# Altium integrated library TI Data Converters Digital to Analog Converter.IntLib: 1533 symbols (part 65 of 99)
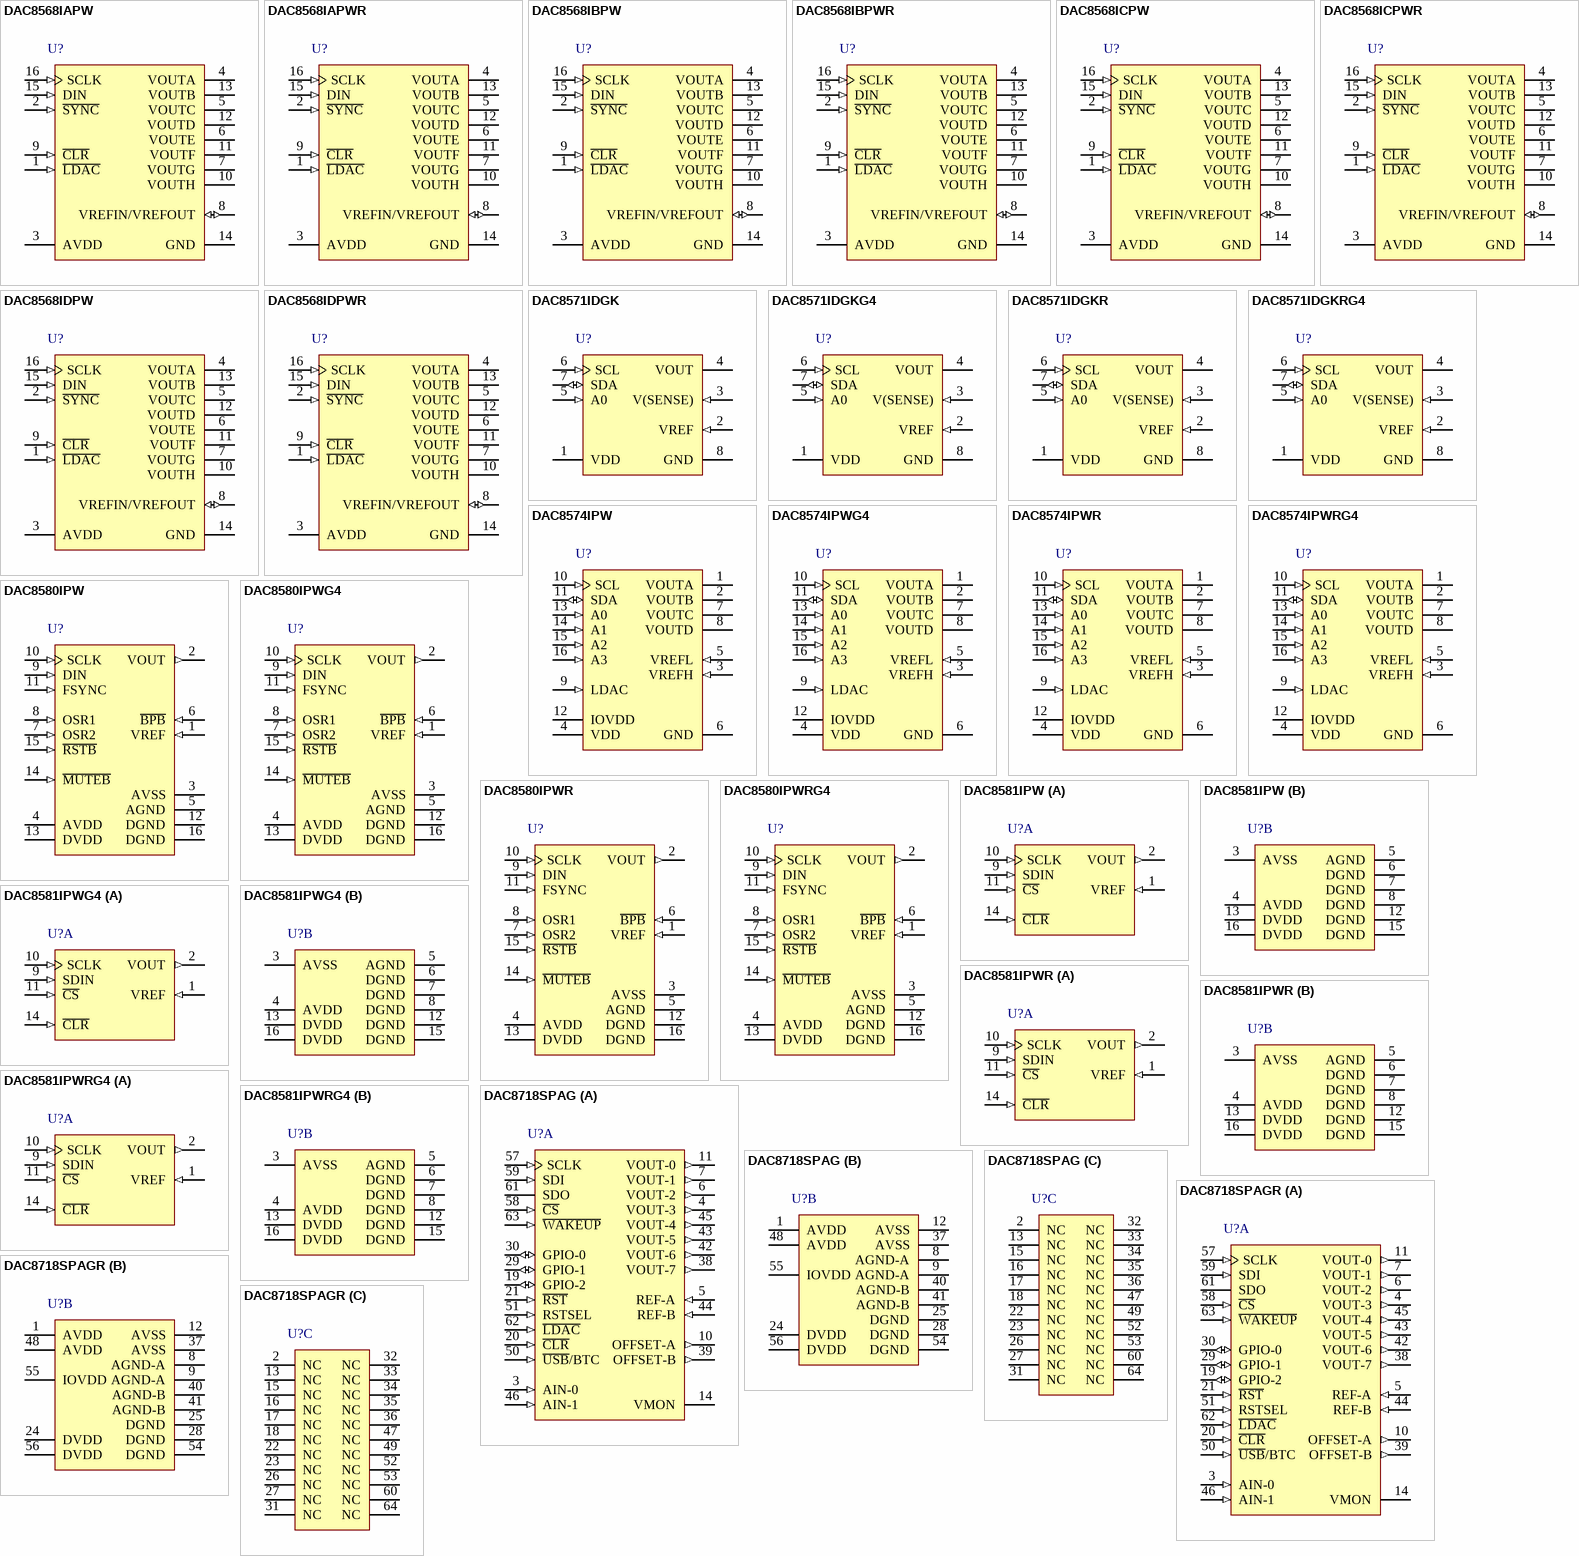
[diagram p137: symbols DAC8568IAPW to DAC8718SPAGR]

## DAC8581IPWR
designator U?
16-Bit, High Speed, Low Noise, Voltage Output Digital to Analog Converter, -40 to 85 degC, 16-pin SOP (PW16), Green (RoHS & no Sb/Br); Manufacturer: Texas Instruments; PartNumber: DAC8581IPWR; DAC Channels: 1; DNL(Max)(+/-LSB): 0.5; Interface: Serial SPI; Power Consumption(Typ)(mW): 175; Resolution(Bits): 16; Settling Time(us): 0.65; SNR(dB): 108; SubFamily: Precision DAC (=<10MSPS); DatasheetVersion: SLAS481C; PackageVersion: 4040064-4/G, 02/2011; PackageReference: PW16; PackageDescription: 16-Pin Plastic Small Outline, Body 5 x 4.4 mm, Pitch 0.65 mm; Supplier 1: Digi-Key; Supplier Part Number 1: DAC8581IPWR-ND; Supplier 2: Newark; Supplier Part Number 2: 53K9305; Supplier 3: Mouser; Supplier Part Number 3: 595-DAC8581IPWR; Eco-Plan: Green (RoHS & no Sb/Br); Mounting Technology: Surface Mount; Code_JEDEC: MO-153; ComponentLink1Description: Manufacturer URL; ComponentLink1URL: http://www.ti.com/; ComponentLink2Description: Datasheet; ComponentLink2URL: http://www.ti.com/general/docs/lit/getliterature.tsp?genericPartNumber=DAC8581&fileType=pdf; ComponentLink3Description: Package Specification; ComponentLink3URL: http://www.ti.com/lit/ml/mpds361/mpds361.pdf
footprint TI-PW16_N (SOP, 16-Leads, Body 5x4.4mm, Pitch 0.65mm, IPC Medium Density)
footprint TI-PW16_L (SOP, 16-Leads, Body 5x4.4mm, Pitch 0.65mm, IPC High Density)
footprint TI-PW16_M (SOP, 16-Leads, Body 5x4.4mm, Pitch 0.65mm, IPC Low Density)
part A pins: 1 VREF (in) "Reference input voltage.", 2 VOUT (out) "DAC output voltage. Output swing is +/-VREF", 9 SDIN (in) "Digital input, serial data. Ignored when C\S\ is high.", 10 SCLK (in) "Digital input, serial bit clock. Ignored when C\S\ is high.", 11 ~{CS} (in) "Digital input. Chip Select (C\S\) signal. Active low. When C\S\ is high, SCLK and SDI are ignored. When C\S\ is low, data can be transferred into the device.", 14 ~{CLR} (in) "Digital input for forcing the output to midscale. Active low. When pin C\L\R\ is low during 16th SCLK following the falling edge of C\S\, the falling edge of 16th SCLK sets DAC Latch to midcode, and the DAC output to 0 V. (See Datasheet)"
part B pins: 3 AVSS (power) "Negative analog supply voltage, tie to -5 V", 4 AVDD (power) "Positive analog supply voltage, tie to +5 V", 5 AGND (power) "The ground reference point of all analog circuitry of the device. Tie to 0 V.", 6 DGND (power) "Tie to DGND to ensure correct operation.", 7 DGND (power) "Tie to DGND to ensure correct operation.", 8 DGND (power) "Tie to DGND to ensure correct operation.", 12 DGND (power) "Ground reference for digital circuitry. Tie to 0 V.", 13 DVDD (power) "Positive digital supply, 1.8 V-5.5 V compatible", 15 DGND (power) "Tie to DGND to ensure correct operation.", 16 DVDD (power) "Tie to DVDD to ensure correct operation."

## DAC8581IPWRG4
designator U?
16-Bit, High Speed, Low Noise, Voltage Output Digital to Analog Converter, -40 to 85 degC, 16-pin SOP (PW16), Green (RoHS & no Sb/Br); Manufacturer: Texas Instruments; PartNumber: DAC8581IPWRG4; DAC Channels: 1; DNL(Max)(+/-LSB): 0.5; Interface: Serial SPI; Power Consumption(Typ)(mW): 175; Resolution(Bits): 16; Settling Time(us): 0.65; SNR(dB): 108; SubFamily: Precision DAC (=<10MSPS); DatasheetVersion: SLAS481C; PackageVersion: 4040064-4/G, 02/2011; PackageReference: PW16; PackageDescription: 16-Pin Plastic Small Outline, Body 5 x 4.4 mm, Pitch 0.65 mm; Supplier 1: Digi-Key; Supplier Part Number 1: DAC8581IPWRG4-ND; Supplier 2: Mouser; Supplier Part Number 2: 595-DAC8581IPWRG4; Eco-Plan: Green (RoHS & no Sb/Br); Mounting Technology: Surface Mount; Code_JEDEC: MO-153; ComponentLink1Description: Manufacturer URL; ComponentLink1URL: http://www.ti.com/; ComponentLink2Description: Datasheet; ComponentLink2URL: http://www.ti.com/general/docs/lit/getliterature.tsp?genericPartNumber=DAC8581&fileType=pdf; ComponentLink3Description: Package Specification; ComponentLink3URL: http://www.ti.com/lit/ml/mpds361/mpds361.pdf
footprint TI-PW16_N (SOP, 16-Leads, Body 5x4.4mm, Pitch 0.65mm, IPC Medium Density)
footprint TI-PW16_L (SOP, 16-Leads, Body 5x4.4mm, Pitch 0.65mm, IPC High Density)
footprint TI-PW16_M (SOP, 16-Leads, Body 5x4.4mm, Pitch 0.65mm, IPC Low Density)
part A pins: 1 VREF (in) "Reference input voltage.", 2 VOUT (out) "DAC output voltage. Output swing is +/-VREF", 9 SDIN (in) "Digital input, serial data. Ignored when C\S\ is high.", 10 SCLK (in) "Digital input, serial bit clock. Ignored when C\S\ is high.", 11 ~{CS} (in) "Digital input. Chip Select (C\S\) signal. Active low. When C\S\ is high, SCLK and SDI are ignored. When C\S\ is low, data can be transferred into the device.", 14 ~{CLR} (in) "Digital input for forcing the output to midscale. Active low. When pin C\L\R\ is low during 16th SCLK following the falling edge of C\S\, the falling edge of 16th SCLK sets DAC Latch to midcode, and the DAC output to 0 V. (See Datasheet)"
part B pins: 3 AVSS (power) "Negative analog supply voltage, tie to -5 V", 4 AVDD (power) "Positive analog supply voltage, tie to +5 V", 5 AGND (power) "The ground reference point of all analog circuitry of the device. Tie to 0 V.", 6 DGND (power) "Tie to DGND to ensure correct operation.", 7 DGND (power) "Tie to DGND to ensure correct operation.", 8 DGND (power) "Tie to DGND to ensure correct operation.", 12 DGND (power) "Ground reference for digital circuitry. Tie to 0 V.", 13 DVDD (power) "Positive digital supply, 1.8 V-5.5 V compatible", 15 DGND (power) "Tie to DGND to ensure correct operation.", 16 DVDD (power) "Tie to DVDD to ensure correct operation."

## DAC8718SPAG
designator U?
Octal, Low power, 16-Bit, +/- 16.5 V Output Serial Input DAC, -40 to 105 degC, 64-pin QFP (PAG64), Green (RoHS & no Sb/Br); Manufacturer: Texas Instruments; PartNumber: DAC8718SPAG; DAC Channels: 8; DNL(Max)(+/-LSB): 1; INL(Max)(+/-LSB): 4; Interface: Serial SPI; Power Consumption(Typ)(mW): 115; Resolution(Bits): 16; Settling Time(us): 15; SubFamily: Precision DAC (=<10MSPS); DatasheetVersion: SBAS467A; PackageVersion: 4040282/C, 11/1996; PackageReference: PAG64; PackageDescription: 64-Pin Plastic Flat Pack, Body 10 x 10 mm, Pitch 0.50 mm; Supplier 1: Digi-Key; Supplier Part Number 1: 296-27423-5-ND; Supplier 2: Newark; Supplier Part Number 2: 79R7942; Supplier 3: Mouser; Supplier Part Number 3: 595-DAC8718SPAG; Eco-Plan: Green (RoHS & no Sb/Br); Mounting Technology: Surface Mount; Code_JEDEC: MS-026; ComponentLink1Description: Manufacturer URL; ComponentLink1URL: http://www.ti.com/; ComponentLink2Description: Datasheet; ComponentLink2URL: http://www.ti.com/general/docs/lit/getliterature.tsp?genericPartNumber=DAC8718&fileType=pdf; ComponentLink3Description: Package Specification; ComponentLink3URL: http://www.ti.com/lit/ml/mtqf006a/mtqf006a.pdf
footprint TI-PAG64_N (QFP, 64-Leads, Body 10x10mm, Pitch 0.5mm, IPC Medium Density)
footprint TI-PAG64_L (QFP, 64-Leads, Body 10x10mm, Pitch 0.5mm, IPC High Density)
footprint TI-PAG64_M (QFP, 64-Leads, Body 10x10mm, Pitch 0.5mm, IPC Low Density)
part A pins: 3 AIN-0 (in) "Auxiliary analog input 0, directly routed to the analog mux", 4 VOUT-3 (out) "DAC-3 output", 5 REF-A (in) "Group A(1) reference input", 6 VOUT-2 (out) "DAC-2 output", 7 VOUT-1 (out) "DAC-1 output", 10 OFFSET-A (out) "OFFSET DAC-A analog output. Must be connected to AGND-A during single power-supply operation (AVSS = 0V). This pin is not intended to drive an external load.", 11 VOUT-0 (out) "DAC-0 output", 14 VMON (hiz) "Analog monitor output. This pin is either in Hi-Z status, connected to one of the eight DAC outputs, reference buffer outputs, offset DAC outputs, or one of the auxiliary analog inputs, depending on the content of the (See Datasheet)", 19 GPIO-2 (io) "General-purpose digital input/output 2. This pin is a bidirectional digital input/output, open-drain and requires an external pull-up resistor. See the GPIO Pins section for details.", 20 ~{CLR} (in) "Clear input, level triggered. When the C\L\R\ pin is logic '0', all VOUT-X pins connect to AGND-x through switches and internal low-impedance. When the C\L\R\ pin is logic '1', all VOUT-X pins connect to the amplifier (See Datasheet)", 21 ~{RST} (in) "Reset input (active low). Logic low on this pin resets the DAC registers and DACs to the values defined by the RSTSEL pin. C\S\ must be logic high when R\S\T\ is active.", 29 GPIO-1 (io) "General-purpose digital input/output 1. This pin is a bidirectional digital input/output, open-drain and requires an external resistor. See the GPIO Pins section for details.", 30 GPIO-0 (io) "General-purpose digital input/output 0. This pin is a bidirectional digital input/output, open-drain and requires an external resistor. See the GPIO Pins section for details.", 38 VOUT-7 (out) "DAC-7 output", 39 OFFSET-B (out) "OFFSET DAC-B analog output. Must be connected to AGND-B during single-supply operation (AVSS = 0V).", 42 VOUT-6 (out) "DAC-6 output", 43 VOUT-5 (out) "DAC-5 output", 44 REF-B (in) "Group B reference input", 45 VOUT-4 (out) "DAC-4 output", 46 AIN-1 (in) "Auxiliary analog input 1, directly routed to the analog mux", 50 ~{USB}/BTC (in) "Data format selection of Input DAC data and Offset DAC data. Data are in straight binary format when connected to DGND or in twos complement format when connected to IOVDD. The command data are always in straight binary (See Datasheet)", 51 RSTSEL (in) "Output reset selection. Selects the output voltage on the VOUT pin after power-on or hardware reset. Refer to the Power-On Reset section for details.", 57 SCLK (in) "SPI bus serial clock input", 58 ~{CS} (in) "SPI bus chip select input (active low). Data are not clocked into SDI unless C\S\ is low. When C\S\ is high, SDO is in a high-impedance state and the SCLK and SDI signals are blocked from the device.", 59 SDI (in) "SPI bus serial data input", 61 SDO (hiz) "SPI bus serial data output. When the DSDO bit = '0', the SDO pin works as an output in normal operation. When the DSDO bit = '1', SDO is always in a Hi-Z state, regardless of the C\S\ pin status. Refer to the Timing Diagrams (See Datasheet)", 62 ~{LDAC} (in) "Load DAC latch control input (active low). When L\D\A\C\ is low, the DAC latch is transparent and the contents of the DAC Data Register are transferred to it. The DAC output changes to the corresponding level simultaneously (See Datasheet)", 63 ~{WAKEUP} (in) "Wake-up input (active low). Restores the SPI from sleep to normal operation. See the Daisy-Chain Operation section for details."
part B pins: 1 AVDD (power) "Positive analog power supply", 8 AGND-A (power) "Group A analog ground and the ground of REF-A. This pin must be tied to AGND-B and DGND.", 9 AGND-A (power) "Group A analog ground and the ground of REF-A. This pin must be tied to AGND-B and DGND.", 12 AVSS (power) "Negative analog power supply", 24 DVDD (power) "Digital power supply", 25 DGND (power) "Digital ground", 28 DGND (power) "Digital ground", 37 AVSS (power) "Negative analog power supply", 40 AGND-B (power) "Group B(1) analog ground and the ground of REF-B. This pin must be tied to AGND-A and DGND.", 41 AGND-B (power) "Group B analog ground and the ground of REF-B. This pin must be tied to AGND-A and DGND.", 48 AVDD (power) "Positive analog power supply", 54 DGND (power) "Digital ground", 55 IOVDD (power) "Interface power", 56 DVDD (power) "Digital power supply"
part C pins: 2 NC "Not connected", 13 NC "Not connected", 15 NC "Not connected", 16 NC "Not connected", 17 NC "Not connected", 18 NC "Not connected", 22 NC "Not connected", 23 NC "Not connected", 26 NC "Not connected", 27 NC "Not connected", 31 NC "Not connected", 32 NC "Not connected", 33 NC "Not connected", 34 NC "Not connected", 35 NC "Not connected", 36 NC "Not connected", 47 NC "Not connected", 49 NC "Not connected", 52 NC "Not connected", 53 NC "Not connected", 60 NC "Not connected", 64 NC "Not connected"

## DAC8718SPAGR
designator U?
Octal, Low power, 16-Bit, +/- 16.5 V Output Serial Input DAC, -40 to 105 degC, 64-pin QFP (PAG64), Green (RoHS & no Sb/Br); Manufacturer: Texas Instruments; PartNumber: DAC8718SPAGR; DAC Channels: 8; DNL(Max)(+/-LSB): 1; INL(Max)(+/-LSB): 4; Interface: Serial SPI; Power Consumption(Typ)(mW): 115; Resolution(Bits): 16; Settling Time(us): 15; SubFamily: Precision DAC (=<10MSPS); DatasheetVersion: SBAS467A; PackageVersion: 4040282/C, 11/1996; PackageReference: PAG64; PackageDescription: 64-Pin Plastic Flat Pack, Body 10 x 10 mm, Pitch 0.50 mm; Supplier 1: Digi-Key; Supplier Part Number 1: DAC8718SPAGR-ND; Supplier 2: Newark; Supplier Part Number 2: 79R7943; Supplier 3: Mouser; Supplier Part Number 3: 595-DAC8718SPAGR; Eco-Plan: Green (RoHS & no Sb/Br); Mounting Technology: Surface Mount; Code_JEDEC: MS-026; ComponentLink1Description: Manufacturer URL; ComponentLink1URL: http://www.ti.com/; ComponentLink2Description: Datasheet; ComponentLink2URL: http://www.ti.com/general/docs/lit/getliterature.tsp?genericPartNumber=DAC8718&fileType=pdf; ComponentLink3Description: Package Specification; ComponentLink3URL: http://www.ti.com/lit/ml/mtqf006a/mtqf006a.pdf
footprint TI-PAG64_N (QFP, 64-Leads, Body 10x10mm, Pitch 0.5mm, IPC Medium Density)
footprint TI-PAG64_L (QFP, 64-Leads, Body 10x10mm, Pitch 0.5mm, IPC High Density)
footprint TI-PAG64_M (QFP, 64-Leads, Body 10x10mm, Pitch 0.5mm, IPC Low Density)
part A pins: 3 AIN-0 (in) "Auxiliary analog input 0, directly routed to the analog mux", 4 VOUT-3 (out) "DAC-3 output", 5 REF-A (in) "Group A(1) reference input", 6 VOUT-2 (out) "DAC-2 output", 7 VOUT-1 (out) "DAC-1 output", 10 OFFSET-A (out) "OFFSET DAC-A analog output. Must be connected to AGND-A during single power-supply operation (AVSS = 0V). This pin is not intended to drive an external load.", 11 VOUT-0 (out) "DAC-0 output", 14 VMON (hiz) "Analog monitor output. This pin is either in Hi-Z status, connected to one of the eight DAC outputs, reference buffer outputs, offset DAC outputs, or one of the auxiliary analog inputs, depending on the content of the (See Datasheet)", 19 GPIO-2 (io) "General-purpose digital input/output 2. This pin is a bidirectional digital input/output, open-drain and requires an external pull-up resistor. See the GPIO Pins section for details.", 20 ~{CLR} (in) "Clear input, level triggered. When the C\L\R\ pin is logic '0', all VOUT-X pins connect to AGND-x through switches and internal low-impedance. When the C\L\R\ pin is logic '1', all VOUT-X pins connect to the amplifier (See Datasheet)", 21 ~{RST} (in) "Reset input (active low). Logic low on this pin resets the DAC registers and DACs to the values defined by the RSTSEL pin. C\S\ must be logic high when R\S\T\ is active.", 29 GPIO-1 (io) "General-purpose digital input/output 1. This pin is a bidirectional digital input/output, open-drain and requires an external resistor. See the GPIO Pins section for details.", 30 GPIO-0 (io) "General-purpose digital input/output 0. This pin is a bidirectional digital input/output, open-drain and requires an external resistor. See the GPIO Pins section for details.", 38 VOUT-7 (out) "DAC-7 output", 39 OFFSET-B (out) "OFFSET DAC-B analog output. Must be connected to AGND-B during single-supply operation (AVSS = 0V).", 42 VOUT-6 (out) "DAC-6 output", 43 VOUT-5 (out) "DAC-5 output", 44 REF-B (in) "Group B reference input", 45 VOUT-4 (out) "DAC-4 output", 46 AIN-1 (in) "Auxiliary analog input 1, directly routed to the analog mux", 50 ~{USB}/BTC (in) "Data format selection of Input DAC data and Offset DAC data. Data are in straight binary format when connected to DGND or in twos complement format when connected to IOVDD. The command data are always in straight binary (See Datasheet)", 51 RSTSEL (in) "Output reset selection. Selects the output voltage on the VOUT pin after power-on or hardware reset. Refer to the Power-On Reset section for details.", 57 SCLK (in) "SPI bus serial clock input", 58 ~{CS} (in) "SPI bus chip select input (active low). Data are not clocked into SDI unless C\S\ is low. When C\S\ is high, SDO is in a high-impedance state and the SCLK and SDI signals are blocked from the device.", 59 SDI (in) "SPI bus serial data input", 61 SDO (hiz) "SPI bus serial data output. When the DSDO bit = '0', the SDO pin works as an output in normal operation. When the DSDO bit = '1', SDO is always in a Hi-Z state, regardless of the C\S\ pin status. Refer to the Timing Diagrams (See Datasheet)", 62 ~{LDAC} (in) "Load DAC latch control input (active low). When L\D\A\C\ is low, the DAC latch is transparent and the contents of the DAC Data Register are transferred to it. The DAC output changes to the corresponding level simultaneously (See Datasheet)", 63 ~{WAKEUP} (in) "Wake-up input (active low). Restores the SPI from sleep to normal operation. See the Daisy-Chain Operation section for details."
part B pins: 1 AVDD (power) "Positive analog power supply", 8 AGND-A (power) "Group A analog ground and the ground of REF-A. This pin must be tied to AGND-B and DGND.", 9 AGND-A (power) "Group A analog ground and the ground of REF-A. This pin must be tied to AGND-B and DGND.", 12 AVSS (power) "Negative analog power supply", 24 DVDD (power) "Digital power supply", 25 DGND (power) "Digital ground", 28 DGND (power) "Digital ground", 37 AVSS (power) "Negative analog power supply", 40 AGND-B (power) "Group B(1) analog ground and the ground of REF-B. This pin must be tied to AGND-A and DGND.", 41 AGND-B (power) "Group B analog ground and the ground of REF-B. This pin must be tied to AGND-A and DGND.", 48 AVDD (power) "Positive analog power supply", 54 DGND (power) "Digital ground", 55 IOVDD (power) "Interface power", 56 DVDD (power) "Digital power supply"
part C pins: 2 NC "Not connected", 13 NC "Not connected", 15 NC "Not connected", 16 NC "Not connected", 17 NC "Not connected", 18 NC "Not connected", 22 NC "Not connected", 23 NC "Not connected", 26 NC "Not connected", 27 NC "Not connected", 31 NC "Not connected", 32 NC "Not connected", 33 NC "Not connected", 34 NC "Not connected", 35 NC "Not connected", 36 NC "Not connected", 47 NC "Not connected", 49 NC "Not connected", 52 NC "Not connected", 53 NC "Not connected", 60 NC "Not connected", 64 NC "Not connected"

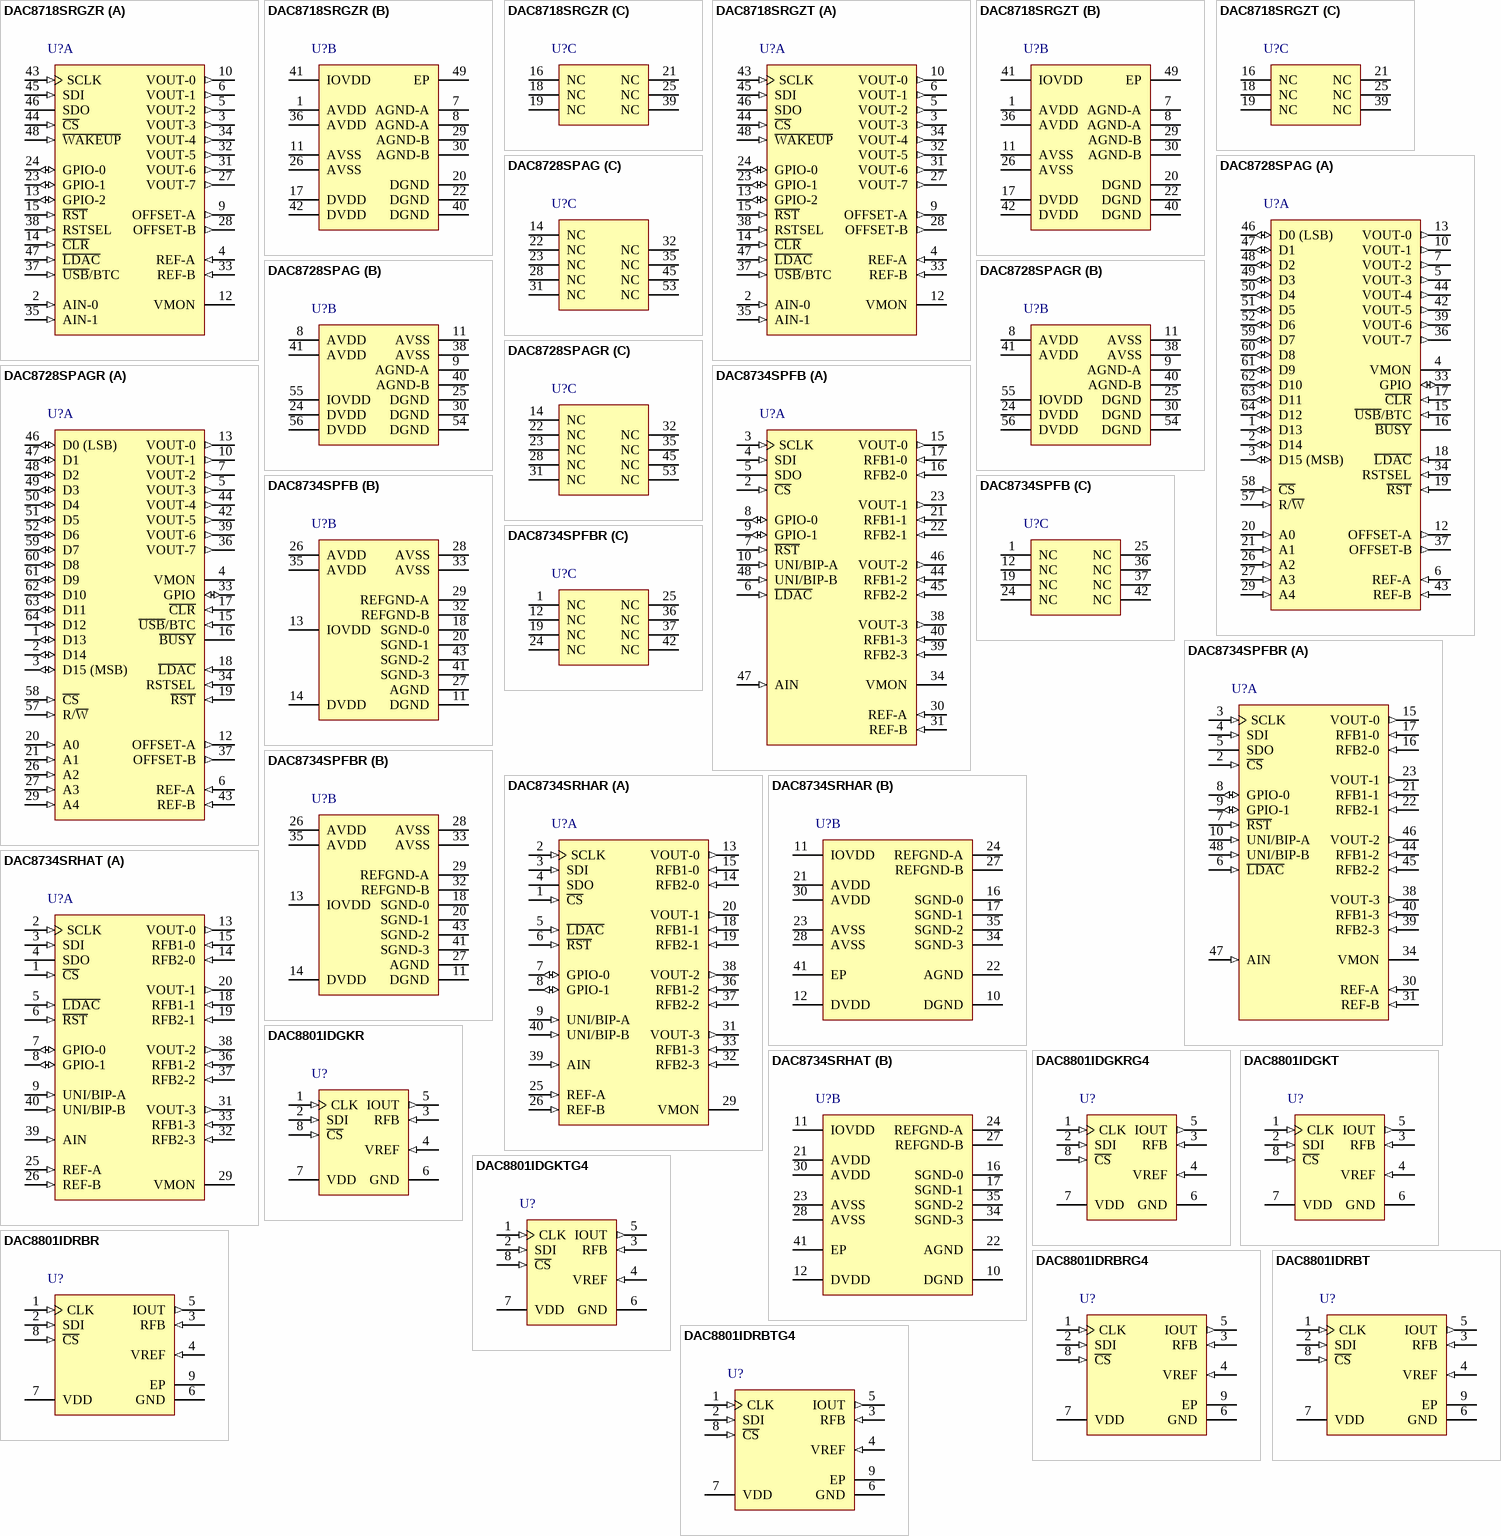
[diagram p50: symbols DAC8718SRGZR to DAC8801IDRBTG4]

## DAC8718SRGZR
designator U?
Octal, Low power, 16-Bit, +/- 16.5 V Output Serial Input DAC, -40 to 105 degC, 48-pin QFN (RGZ48), Green (RoHS & no Sb/Br); Manufacturer: Texas Instruments; PartNumber: DAC8718SRGZR; DAC Channels: 8; DNL(Max)(+/-LSB): 1; INL(Max)(+/-LSB): 4; Interface: Serial SPI; Power Consumption(Typ)(mW): 115; Resolution(Bits): 16; Settling Time(us): 15; SubFamily: Precision DAC (=<10MSPS); DatasheetVersion: SBAS467A; PackageVersion: 4204101/F, 06/2011; PackageReference: RGZ48-5600X5600TP; PackageDescription: 48-Lead, Plastic Flat Pack, Body Size 7 x 7 mm, Pitch 0.5 mm; Supplier 1: Digi-Key; Supplier Part Number 1: DAC8718SRGZR-ND; Supplier 2: Mouser; Supplier Part Number 2: 595-DAC8718SRGZR; Eco-Plan: Green (RoHS & no Sb/Br); Mounting Technology: Surface Mount; Code_JEDEC: MO-220; ComponentLink1Description: Manufacturer URL; ComponentLink1URL: http://www.ti.com/; ComponentLink2Description: Datasheet; ComponentLink2URL: http://www.ti.com/general/docs/lit/getliterature.tsp?genericPartNumber=DAC8718&fileType=pdf; ComponentLink3Description: Package Specification; ComponentLink3URL: http://www.ti.com/lit/ml/mpqf123e/mpqf123e.pdf
footprint TI-RGZ48-5600X5600TP_V (QFN, 48-Leads, Body 7x7mm, Pitch 0.5mm, Thermal Pad 5.6x5.6mm)
part A pins: 2 AIN-0 (in) "Auxiliary analog input 0, directly routed to the analog mux", 3 VOUT-3 (out) "DAC-3 output", 4 REF-A (in) "Group A(1) reference input", 5 VOUT-2 (out) "DAC-2 output", 6 VOUT-1 (out) "DAC-1 output", 9 OFFSET-A (out) "OFFSET DAC-A analog output. Must be connected to AGND-A during single power-supply operation (AVSS = 0V). This pin is not intended to drive an external load.", 10 VOUT-0 (out) "DAC-0 output", 12 VMON (hiz) "Analog monitor output. This pin is either in Hi-Z status, connected to one of the eight DAC outputs, reference buffer outputs, offset DAC outputs, or one of the auxiliary analog inputs, depending on the content of the (See Datasheet)", 13 GPIO-2 (io) "General-purpose digital input/output 2. This pin is a bidirectional digital input/output, open-drain and requires an external pull-up resistor. See the GPIO Pins section for details.", 14 ~{CLR} (in) "Clear input, level triggered. When the C\L\R\ pin is logic '0', all VOUT-X pins connect to AGND-x through switches and internal low-impedance. When the C\L\R\ pin is logic '1', all VOUT-X pins connect to the amplifier (See Datasheet)", 15 ~{RST} (in) "Reset input (active low). Logic low on this pin resets the DAC registers and DACs to the values defined by the RSTSEL pin. C\S\ must be logic high when R\S\T\ is active.", 23 GPIO-1 (io) "General-purpose digital input/output 1. This pin is a bidirectional digital input/output, open-drain and requires an external resistor. See the GPIO Pins section for details.", 24 GPIO-0 (io) "General-purpose digital input/output 0. This pin is a bidirectional digital input/output, open-drain and requires an external resistor. See the GPIO Pins section for details.", 27 VOUT-7 (out) "DAC-7 output", 28 OFFSET-B (out) "OFFSET DAC-B analog output. Must be connected to AGND-B during single-supply operation (AVSS = 0V).", 31 VOUT-6 (out) "DAC-6 output", 32 VOUT-5 (out) "DAC-5 output", 33 REF-B (in) "Group B reference input", 34 VOUT-4 (out) "DAC-4 output", 35 AIN-1 (in) "Auxiliary analog input 1, directly routed to the analog mux", 37 ~{USB}/BTC (in) "Data format selection of Input DAC data and Offset DAC data. Data are in straight binary format when connected to DGND or in twos complement format when connected to IOVDD. The command data are always in straight binary (See Datasheet)", 38 RSTSEL (in) "Output reset selection. Selects the output voltage on the VOUT pin after power-on or hardware reset. Refer to the Power-On Reset section for details.", 43 SCLK (in) "SPI bus serial clock input", 44 ~{CS} (in) "SPI bus chip select input (active low). Data are not clocked into SDI unless C\S\ is low. When C\S\ is high, SDO is in a high-impedance state and the SCLK and SDI signals are blocked from the device.", 45 SDI (in) "SPI bus serial data input", 46 SDO (hiz) "SPI bus serial data output. When the DSDO bit = '0', the SDO pin works as an output in normal operation. When the DSDO bit = '1', SDO is always in a Hi-Z state, regardless of the CS pin status. Refer to the Timing Diagrams (See Datasheet)", 47 ~{LDAC} (in) "Load DAC latch control input (active low). When L\D\A\C\ is low, the DAC latch is transparent and the contents of the DAC Data Register are transferred to it. The DAC output changes to the corresponding level simultaneously (See Datasheet)", 48 ~{WAKEUP} (in) "Wake-up input (active low). Restores the SPI from sleep to normal operation. See the Daisy-Chain Operation section for details."
part B pins: 1 AVDD (power) "Positive analog power supply", 7 AGND-A (power) "Group A analog ground and the ground of REF-A. This pin must be tied to AGND-B and DGND.", 8 AGND-A (power) "Group A analog ground and the ground of REF-A. This pin must be tied to AGND-B and DGND.", 11 AVSS (power) "Negative analog power supply", 17 DVDD (power) "Digital power supply", 20 DGND (power) "Digital ground", 22 DGND (power) "Digital ground", 26 AVSS (power) "Negative analog power supply", 29 AGND-B (power) "Group B(1) analog ground and the ground of REF-B. This pin must be tied to AGND-A and DGND.", 30 AGND-B (power) "Group B analog ground and the ground of REF-B. This pin must be tied to AGND-A and DGND.", 36 AVDD (power) "Positive analog power supply", 40 DGND (power) "Digital ground", 41 IOVDD (power) "Interface power", 42 DVDD (power) "Digital power supply", 49 EP "The thermal pad is internally connected to the substrate. This pad can be connected to AVSS or left floating. Keep the thermal pad separate from the digital ground, if possible."
part C pins: 16 NC "Not connected", 18 NC "Not connected", 19 NC "Not connected", 21 NC "Not connected", 25 NC "Not connected", 39 NC "Not connected"

## DAC8718SRGZT
designator U?
Octal, Low power, 16-Bit, +/- 16.5 V Output Serial Input DAC, -40 to 105 degC, 48-pin QFN (RGZ48), Green (RoHS & no Sb/Br); Manufacturer: Texas Instruments; PartNumber: DAC8718SRGZT; DAC Channels: 8; DNL(Max)(+/-LSB): 1; INL(Max)(+/-LSB): 4; Interface: Serial SPI; Power Consumption(Typ)(mW): 115; Resolution(Bits): 16; Settling Time(us): 15; SubFamily: Precision DAC (=<10MSPS); DatasheetVersion: SBAS467A; PackageVersion: 4204101/F, 06/2011; PackageReference: RGZ48-5600X5600TP; PackageDescription: 48-Lead, Plastic Flat Pack, Body Size 7 x 7 mm, Pitch 0.5 mm; Supplier 1: Digi-Key; Supplier Part Number 1: 296-25560-2-ND; Supplier 2: Digi-Key; Supplier Part Number 2: 296-25560-1-ND; Supplier 3: Digi-Key; Supplier Part Number 3: 296-25560-6-ND; Supplier 4: Farnell; Supplier Part Number 4: 1815725; Supplier 5: Newark; Supplier Part Number 5: 60R2411; Supplier 6: Mouser; Supplier Part Number 6: 595-DAC8718SRGZT; Eco-Plan: Green (RoHS & no Sb/Br); Mounting Technology: Surface Mount; Code_JEDEC: MO-220; ComponentLink1Description: Manufacturer URL; ComponentLink1URL: http://www.ti.com/; ComponentLink2Description: Datasheet; ComponentLink2URL: http://www.ti.com/general/docs/lit/getliterature.tsp?genericPartNumber=DAC8718&fileType=pdf; ComponentLink3Description: Package Specification; ComponentLink3URL: http://www.ti.com/lit/ml/mpqf123e/mpqf123e.pdf
footprint TI-RGZ48-5600X5600TP_V (QFN, 48-Leads, Body 7x7mm, Pitch 0.5mm, Thermal Pad 5.6x5.6mm)
part A pins: 2 AIN-0 (in) "Auxiliary analog input 0, directly routed to the analog mux", 3 VOUT-3 (out) "DAC-3 output", 4 REF-A (in) "Group A(1) reference input", 5 VOUT-2 (out) "DAC-2 output", 6 VOUT-1 (out) "DAC-1 output", 9 OFFSET-A (out) "OFFSET DAC-A analog output. Must be connected to AGND-A during single power-supply operation (AVSS = 0V). This pin is not intended to drive an external load.", 10 VOUT-0 (out) "DAC-0 output", 12 VMON (hiz) "Analog monitor output. This pin is either in Hi-Z status, connected to one of the eight DAC outputs, reference buffer outputs, offset DAC outputs, or one of the auxiliary analog inputs, depending on the content of the (See Datasheet)", 13 GPIO-2 (io) "General-purpose digital input/output 2. This pin is a bidirectional digital input/output, open-drain and requires an external pull-up resistor. See the GPIO Pins section for details.", 14 ~{CLR} (in) "Clear input, level triggered. When the C\L\R\ pin is logic '0', all VOUT-X pins connect to AGND-x through switches and internal low-impedance. When the C\L\R\ pin is logic '1', all VOUT-X pins connect to the amplifier (See Datasheet)", 15 ~{RST} (in) "Reset input (active low). Logic low on this pin resets the DAC registers and DACs to the values defined by the RSTSEL pin. C\S\ must be logic high when R\S\T\ is active.", 23 GPIO-1 (io) "General-purpose digital input/output 1. This pin is a bidirectional digital input/output, open-drain and requires an external resistor. See the GPIO Pins section for details.", 24 GPIO-0 (io) "General-purpose digital input/output 0. This pin is a bidirectional digital input/output, open-drain and requires an external resistor. See the GPIO Pins section for details.", 27 VOUT-7 (out) "DAC-7 output", 28 OFFSET-B (out) "OFFSET DAC-B analog output. Must be connected to AGND-B during single-supply operation (AVSS = 0V).", 31 VOUT-6 (out) "DAC-6 output", 32 VOUT-5 (out) "DAC-5 output", 33 REF-B (in) "Group B reference input", 34 VOUT-4 (out) "DAC-4 output", 35 AIN-1 (in) "Auxiliary analog input 1, directly routed to the analog mux", 37 ~{USB}/BTC (in) "Data format selection of Input DAC data and Offset DAC data. Data are in straight binary format when connected to DGND or in twos complement format when connected to IOVDD. The command data are always in straight binary (See Datasheet)", 38 RSTSEL (in) "Output reset selection. Selects the output voltage on the VOUT pin after power-on or hardware reset. Refer to the Power-On Reset section for details.", 43 SCLK (in) "SPI bus serial clock input", 44 ~{CS} (in) "SPI bus chip select input (active low). Data are not clocked into SDI unless C\S\ is low. When C\S\ is high, SDO is in a high-impedance state and the SCLK and SDI signals are blocked from the device.", 45 SDI (in) "SPI bus serial data input", 46 SDO (hiz) "SPI bus serial data output. When the DSDO bit = '0', the SDO pin works as an output in normal operation. When the DSDO bit = '1', SDO is always in a Hi-Z state, regardless of the CS pin status. Refer to the Timing Diagrams (See Datasheet)", 47 ~{LDAC} (in) "Load DAC latch control input (active low). When L\D\A\C\ is low, the DAC latch is transparent and the contents of the DAC Data Register are transferred to it. The DAC output changes to the corresponding level simultaneously (See Datasheet)", 48 ~{WAKEUP} (in) "Wake-up input (active low). Restores the SPI from sleep to normal operation. See the Daisy-Chain Operation section for details."
part B pins: 1 AVDD (power) "Positive analog power supply", 7 AGND-A (power) "Group A analog ground and the ground of REF-A. This pin must be tied to AGND-B and DGND.", 8 AGND-A (power) "Group A analog ground and the ground of REF-A. This pin must be tied to AGND-B and DGND.", 11 AVSS (power) "Negative analog power supply", 17 DVDD (power) "Digital power supply", 20 DGND (power) "Digital ground", 22 DGND (power) "Digital ground", 26 AVSS (power) "Negative analog power supply", 29 AGND-B (power) "Group B(1) analog ground and the ground of REF-B. This pin must be tied to AGND-A and DGND.", 30 AGND-B (power) "Group B analog ground and the ground of REF-B. This pin must be tied to AGND-A and DGND.", 36 AVDD (power) "Positive analog power supply", 40 DGND (power) "Digital ground", 41 IOVDD (power) "Interface power", 42 DVDD (power) "Digital power supply", 49 EP "The thermal pad is internally connected to the substrate. This pad can be connected to AVSS or left floating. Keep the thermal pad separate from the digital ground, if possible."
part C pins: 16 NC "Not connected", 18 NC "Not connected", 19 NC "Not connected", 21 NC "Not connected", 25 NC "Not connected", 39 NC "Not connected"

## DAC8728SPAG
designator U?
Octal, Low Power, 16-Bit, +/- 16.5 V Output Parallel Input DAC, -40 to 105 degC, 64-pin QFP (PAG64), Green (RoHS & no Sb/Br); Manufacturer: Texas Instruments; PartNumber: DAC8728SPAG; DAC Channels: 8; DNL(Max)(+/-LSB): 1; INL(Max)(+/-LSB): 4; Power Consumption(Typ)(mW): 107; Resolution(Bits): 16; Settling Time(us): 15; SubFamily: Precision DAC (=<10MSPS); DatasheetVersion: SBAS466A; PackageVersion: 4040282/C, 11/1996; PackageReference: PAG64; PackageDescription: 64-Pin Plastic Flat Pack, Body 10 x 10 mm, Pitch 0.50 mm; Supplier 1: Digi-Key; Supplier Part Number 1: 296-25472-ND; Supplier 2: Farnell; Supplier Part Number 2: 1784765; Supplier 3: Newark; Supplier Part Number 3: 53R2227; Supplier 4: Mouser; Supplier Part Number 4: 595-DAC8728SPAG; Eco-Plan: Green (RoHS & no Sb/Br); Interface: Parallel; Mounting Technology: Surface Mount; Code_JEDEC: MS-026; ComponentLink1Description: Manufacturer URL; ComponentLink1URL: http://www.ti.com/; ComponentLink2Description: Datasheet; ComponentLink2URL: http://www.ti.com/general/docs/lit/getliterature.tsp?genericPartNumber=DAC8728&fileType=pdf; ComponentLink3Description: Package Specification; ComponentLink3URL: http://www.ti.com/lit/ml/mtqf006a/mtqf006a.pdf
footprint TI-PAG64_N (QFP, 64-Leads, Body 10x10mm, Pitch 0.5mm, IPC Medium Density)
footprint TI-PAG64_L (QFP, 64-Leads, Body 10x10mm, Pitch 0.5mm, IPC High Density)
footprint TI-PAG64_M (QFP, 64-Leads, Body 10x10mm, Pitch 0.5mm, IPC Low Density)
part A pins: 1 D13 (io) "Data bit 13", 2 D14 (io) "Data bit 14", 3 D15 (MSB) (io) "Data bit 15", 4 VMON (hiz) "Analog monitor output. This pin is either in Hi-Z status, or connected to one of the DAC outputs, reference buffer outputs, or offset DAC outputs, depending on the content of the Monitor Register.", 5 VOUT-3 (out) "DAC-3 output", 6 REF-A (in) "Group A(1) reference input", 7 VOUT-2 (out) "DAC-2 output", 10 VOUT-1 (out) "DAC-1 output", 12 OFFSET-A (out) "OFFSET DAC-A analog output. Must be connected to AGND-A during single power-supply operation (AVSS = 0V). This pin is not intended to drive an external load.", 13 VOUT-0 (out) "DAC-0 output", 15 ~{USB}/BTC (in) "Input data format selection. Input data are in straight binary format when connected to DGND or in twos complement format when connected to IOVDD. Command data are always in straight binary format.", 16 ~{BUSY} (oc) "This pin is an open drain and requires an external pullup resistor. B\U\S\Y\ goes low when the correction engine is running; see the Busy Pin section for details.", 17 ~{CLR} (in) "Level trigger. When the C\L\R\ pin is logic '0', all VOUT-X pins connect to AGND-x through switches and an internal 15kohm resistor. When the C\L\R\ pin is logic '1' and L\D\A\C\ is logic '0', all VOUT-X pins connect to the (See Datasheet)", 18 ~{LDAC} (in) "Load DAC latch control input (active low). When L\D\A\C\ is low, the DAC latch is transparent and the contents of the DAC Data Register are transferred to it. The DAC output changes to the corresponding level simultaneously (See Datasheet)", 19 ~{RST} (in) "Reset input (active low). Logic low on this pin resets the DAC registers and DACs to the values defined by the RSTSEL pin. C\S\ must be at logic high when R\S\T\ is used.", 20 A0 (in) "Address bit A0 to specify the internal registers.", 21 A1 (in) "Address bit A1 to specify the internal registers.", 26 A2 (in) "Address bit A2 to specify the internal registers.", 27 A3 (in) "Address bit A3 to specify the internal registers.", 29 A4 (in) "Address bit A4 to specify the internal registers.", 33 GPIO (io) "General-purpose digital input/output. This pin is a bidirectional, open-drain, digital input/output, and requires an external pullup resistor. See the GPIO Pin section for details.", 34 RSTSEL (in) "Output reset selection. Selects the output voltage on the VOUT pin after power-on or hardware reset. Refer to the Power-On Reset section for details.", 36 VOUT-7 (out) "DAC-7 output", 37 OFFSET-B (out) "OFFSET DAC-B analog output. Must be connected to AGND-B during single-supply operation (AVSS = 0V). This pin is not intended to drive an external load.", 39 VOUT-6 (out) "DAC-6 output", 42 VOUT-5 (out) "DAC-5 output", 43 REF-B (in) "Group B(2) reference input", 44 VOUT-4 (out) "DAC-4 output", 46 D0 (LSB) (io) "Data bit 0", 47 D1 (io) "Data bit 1", 48 D2 (io) "Data bit 2", 49 D3 (io) "Data bit 3", 50 D4 (io) "Data bit 4", 51 D5 (io) "Data bit 5", 52 D6 (io) "Data bit 6", 57 R/~{W} (in) "Read and write signal. High for reading operation; low for writing operation.", 58 ~{CS} (in) "Chip select input (active low)", 59 D7 (io) "Data bit 7", 60 D8 (io) "Data bit 8", 61 D9 (io) "Data bit 9", 62 D10 (io) "Data bit 10", 63 D11 (io) "Data bit 11", 64 D12 (io) "Data bit 12"
part B pins: 8 AVDD (power) "Positive analog power supply", 9 AGND-A (power) "Group A(1) analog ground and the ground of REF-A. This pin must be tied to AGND-B and DGND.", 11 AVSS (power) "Negative analog power supply. Connect to AGND in single-supply operation.", 24 DVDD (power) "Digital power supply", 25 DGND (power) "Digital ground", 30 DGND (power) "Digital ground", 38 AVSS (power) "Negative analog power supply. Connect to AGND in single-supply operation.", 40 AGND-B (power) "Group B(2) analog ground and the ground of REF-B. This pin must be tied to AGND-A and DGND.", 41 AVDD (power) "Positive analog power supply", 54 DGND (power) "Digital ground", 55 IOVDD (power) "Digital interface power supply", 56 DVDD (power) "Digital power supply"
part C pins: 14 NC "Not connected", 22 NC "Not connected", 23 NC "Not connected", 28 NC "Not connected", 31 NC "Not connected", 32 NC "Not connected", 35 NC "Not connected", 45 NC "Not connected", 53 NC "Not connected"

## DAC8728SPAGR
designator U?
Octal, Low Power, 16-Bit, +/- 16.5 V Output Parallel Input DAC, -40 to 105 degC, 64-pin QFP (PAG64), Green (RoHS & no Sb/Br); Manufacturer: Texas Instruments; PartNumber: DAC8728SPAGR; DAC Channels: 8; DNL(Max)(+/-LSB): 1; INL(Max)(+/-LSB): 4; Power Consumption(Typ)(mW): 107; Resolution(Bits): 16; Settling Time(us): 15; SubFamily: Precision DAC (=<10MSPS); DatasheetVersion: SBAS466A; PackageVersion: 4040282/C, 11/1996; PackageReference: PAG64; PackageDescription: 64-Pin Plastic Flat Pack, Body 10 x 10 mm, Pitch 0.50 mm; Supplier 1: Digi-Key; Supplier Part Number 1: DAC8728SPAGR-ND; Supplier 2: Mouser; Supplier Part Number 2: 595-DAC8728SPAGR; Eco-Plan: Green (RoHS & no Sb/Br); Interface: Parallel; Mounting Technology: Surface Mount; Code_JEDEC: MS-026; ComponentLink1Description: Manufacturer URL; ComponentLink1URL: http://www.ti.com/; ComponentLink2Description: Datasheet; ComponentLink2URL: http://www.ti.com/general/docs/lit/getliterature.tsp?genericPartNumber=DAC8728&fileType=pdf; ComponentLink3Description: Package Specification; ComponentLink3URL: http://www.ti.com/lit/ml/mtqf006a/mtqf006a.pdf
footprint TI-PAG64_N (QFP, 64-Leads, Body 10x10mm, Pitch 0.5mm, IPC Medium Density)
footprint TI-PAG64_L (QFP, 64-Leads, Body 10x10mm, Pitch 0.5mm, IPC High Density)
footprint TI-PAG64_M (QFP, 64-Leads, Body 10x10mm, Pitch 0.5mm, IPC Low Density)
part A pins: 1 D13 (io) "Data bit 13", 2 D14 (io) "Data bit 14", 3 D15 (MSB) (io) "Data bit 15", 4 VMON (hiz) "Analog monitor output. This pin is either in Hi-Z status, or connected to one of the DAC outputs, reference buffer outputs, or offset DAC outputs, depending on the content of the Monitor Register.", 5 VOUT-3 (out) "DAC-3 output", 6 REF-A (in) "Group A(1) reference input", 7 VOUT-2 (out) "DAC-2 output", 10 VOUT-1 (out) "DAC-1 output", 12 OFFSET-A (out) "OFFSET DAC-A analog output. Must be connected to AGND-A during single power-supply operation (AVSS = 0V). This pin is not intended to drive an external load.", 13 VOUT-0 (out) "DAC-0 output", 15 ~{USB}/BTC (in) "Input data format selection. Input data are in straight binary format when connected to DGND or in twos complement format when connected to IOVDD. Command data are always in straight binary format.", 16 ~{BUSY} (oc) "This pin is an open drain and requires an external pullup resistor. B\U\S\Y\ goes low when the correction engine is running; see the Busy Pin section for details.", 17 ~{CLR} (in) "Level trigger. When the C\L\R\ pin is logic '0', all VOUT-X pins connect to AGND-x through switches and an internal 15kohm resistor. When the C\L\R\ pin is logic '1' and L\D\A\C\ is logic '0', all VOUT-X pins connect to the (See Datasheet)", 18 ~{LDAC} (in) "Load DAC latch control input (active low). When L\D\A\C\ is low, the DAC latch is transparent and the contents of the DAC Data Register are transferred to it. The DAC output changes to the corresponding level simultaneously (See Datasheet)", 19 ~{RST} (in) "Reset input (active low). Logic low on this pin resets the DAC registers and DACs to the values defined by the RSTSEL pin. C\S\ must be at logic high when R\S\T\ is used.", 20 A0 (in) "Address bit A0 to specify the internal registers.", 21 A1 (in) "Address bit A1 to specify the internal registers.", 26 A2 (in) "Address bit A2 to specify the internal registers.", 27 A3 (in) "Address bit A3 to specify the internal registers.", 29 A4 (in) "Address bit A4 to specify the internal registers.", 33 GPIO (io) "General-purpose digital input/output. This pin is a bidirectional, open-drain, digital input/output, and requires an external pullup resistor. See the GPIO Pin section for details.", 34 RSTSEL (in) "Output reset selection. Selects the output voltage on the VOUT pin after power-on or hardware reset. Refer to the Power-On Reset section for details.", 36 VOUT-7 (out) "DAC-7 output", 37 OFFSET-B (out) "OFFSET DAC-B analog output. Must be connected to AGND-B during single-supply operation (AVSS = 0V). This pin is not intended to drive an external load.", 39 VOUT-6 (out) "DAC-6 output", 42 VOUT-5 (out) "DAC-5 output", 43 REF-B (in) "Group B(2) reference input", 44 VOUT-4 (out) "DAC-4 output", 46 D0 (LSB) (io) "Data bit 0", 47 D1 (io) "Data bit 1", 48 D2 (io) "Data bit 2", 49 D3 (io) "Data bit 3", 50 D4 (io) "Data bit 4", 51 D5 (io) "Data bit 5", 52 D6 (io) "Data bit 6", 57 R/~{W} (in) "Read and write signal. High for reading operation; low for writing operation.", 58 ~{CS} (in) "Chip select input (active low)", 59 D7 (io) "Data bit 7", 60 D8 (io) "Data bit 8", 61 D9 (io) "Data bit 9", 62 D10 (io) "Data bit 10", 63 D11 (io) "Data bit 11", 64 D12 (io) "Data bit 12"
part B pins: 8 AVDD (power) "Positive analog power supply", 9 AGND-A (power) "Group A(1) analog ground and the ground of REF-A. This pin must be tied to AGND-B and DGND.", 11 AVSS (power) "Negative analog power supply. Connect to AGND in single-supply operation.", 24 DVDD (power) "Digital power supply", 25 DGND (power) "Digital ground", 30 DGND (power) "Digital ground", 38 AVSS (power) "Negative analog power supply. Connect to AGND in single-supply operation.", 40 AGND-B (power) "Group B(2) analog ground and the ground of REF-B. This pin must be tied to AGND-A and DGND.", 41 AVDD (power) "Positive analog power supply", 54 DGND (power) "Digital ground", 55 IOVDD (power) "Digital interface power supply", 56 DVDD (power) "Digital power supply"
part C pins: 14 NC "Not connected", 22 NC "Not connected", 23 NC "Not connected", 28 NC "Not connected", 31 NC "Not connected", 32 NC "Not connected", 35 NC "Not connected", 45 NC "Not connected", 53 NC "Not connected"

## DAC8734SPFB
designator U?
16-Bit Quad High Accuracy +/- 16.5 V Output DAC, -40 to 105 degC, 48-pin QFP (PFB48), Green (RoHS & no Sb/Br); Manufacturer: Texas Instruments; PartNumber: DAC8734SPFB; DAC Channels: 4; DNL(Max)(+/-LSB): 1; Interface: Serial SPI; Power Consumption(Typ)(mW): 290; Resolution(Bits): 16; Settling Time(us): 6; SubFamily: Precision DAC (=<10MSPS); DatasheetVersion: SBAS465A; PackageVersion: 4073176/B, 10/1996; PackageReference: PFB48; PackageDescription: 48-Pin Plastic Flat Pack, Body 7 x 7 mm, Pitch 0.5 mm; Supplier 1: Digi-Key; Supplier Part Number 1: 296-25117-ND; Supplier 2: Farnell; Supplier Part Number 2: 2082437; Supplier 3: Newark; Supplier Part Number 3: 50R7663; Supplier 4: Newark; Supplier Part Number 4: 89T8681; Supplier 5: Mouser; Supplier Part Number 5: 595-DAC8734SPFB; Eco-Plan: Green (RoHS & no Sb/Br); INL(Max)(+/-LSB): 1; Mounting Technology: Surface Mount; Code_JEDEC: MS-026; ComponentLink1Description: Manufacturer URL; ComponentLink1URL: http://www.ti.com/; ComponentLink2Description: Datasheet; ComponentLink2URL: http://www.ti.com/general/docs/lit/getliterature.tsp?genericPartNumber=DAC8734&fileType=pdf; ComponentLink3Description: Package Specification; ComponentLink3URL: http://www.ti.com/lit/ml/mtqf019a/mtqf019a.pdf
footprint TI-PFB48_N (QFP, 48-Leads, Body 7x7mm, Pitch 0.5mm, IPC Medium Density)
footprint TI-PFB48_L (QFP, 48-Leads, Body 7x7mm, Pitch 0.5mm, IPC High Density)
footprint TI-PFB48_M (QFP, 48-Leads, Body 7x7mm, Pitch 0.5mm, IPC Low Density)
part A pins: 2 ~{CS} (in) "SPI bus chip select input (active low). Data are not clocked into the SPI shift register unless C\S\ is low. When C\S\ is high, SDO is in a high-impedance state.", 3 SCLK (in) "SPI bus clock", 4 SDI (in) "SPI bus input data", 5 SDO (hiz) "SPI output data", 6 ~{LDAC} (in) "Load DAC latch control input (active low). When L\D\A\C\ is low, the DAC latch is transparent and the contents of the Input Data Register are transferred to it. The DAC output changes to the corresponding level (See Datasheet)", 7 ~{RST} (in) "Reset input (active low). Logic low on this pin resets the input registers and DACs to the values defined by the UNI/BIP pins, and sets the Gain Register and Zero Register to default values.", 8 GPIO-0 (io) "General-purpose digital input/output 0. This pin is a bidirectional, digital input/output, and has an open-drain output. A 10kO pull-up resistor to IOVDD is needed when this pin is used as an output. See the GPIO Pins (See Datasheet)", 9 GPIO-1 (io) "General-purpose digital input/output 1. This pin is a bidirectional, digital input/output, and has an open-drain output. A 10kO pull-up resistor to IOVDD is needed when this pin is used as an output. See the GPIO Pins (See Datasheet)", 10 UNI/BIP-A (in) "Output mode selection of group A (DAC-0 and DAC-1). When UNI/BIP-A is tied to IOVDD, group A is in unipolar output mode; when tied to DGND, group A is in bipolar output mode. The input data written to the DAC are straight (See Datasheet)", 15 VOUT-0 (out) "DAC-0 output", 16 RFB2-0 (in) "DAC-0 RFB2 feedback", 17 RFB1-0 (in) "DAC-0 RFB1 feedback", 21 RFB1-1 (in) "DAC-1 RFB1 feedback", 22 RFB2-1 (in) "DAC-1 RFB2 feedback", 23 VOUT-1 (out) "DAC-1 output", 30 REF-A (in) "Group A (DAC-0, DAC-1) reference input", 31 REF-B (in) "Group B (DAC-2, DAC-3) reference input", 34 VMON (hiz) "Analog monitor output. This pin is either in Hi-Z status, or connected to one of the four DAC outputs or AIN, depending on the content of the Monitor Register.", 38 VOUT-3 (out) "DAC-3 output", 39 RFB2-3 (in) "DAC-3 RFB2 feedback", 40 RFB1-3 (in) "DAC-3 RFB1 feedback", 44 RFB1-2 (in) "DAC-2 RFB1 feedback", 45 RFB2-2 (in) "DAC-2 RFB2 feedback", 46 VOUT-2 (out) "DAC-2 output", 47 AIN (in) "Auxiliary analog input. Connected to the analog monitor mux.", 48 UNI/BIP-B (in) "Output mode selection of group B (DAC-2 and DAC-3). When UNI/BIP-A is tied to IOVDD, group B is in unipolar output mode; when tied to DGND, group B is in bipolar output mode. The input data written to the DAC are straight (See Datasheet)"
part B pins: 11 DGND (power) "Digital ground", 13 IOVDD (power) "Interface power", 14 DVDD (power) "Digital power", 18 SGND-0 (power) "DAC-0 signal ground. Connected to REFGND-A.", 20 SGND-1 (power) "DAC-1 signal ground. Connected to REFGND-A.", 26 AVDD (power) "Positive analog power supply", 27 AGND (power) "Analog ground", 28 AVSS (power) "Negative analog power supply", 29 REFGND-A (power) "Reference REF-A ground. Connect to AGND.", 32 REFGND-B (power) "Reference REF-B ground. Connect to AGND.", 33 AVSS (power) "Negative analog power supply", 35 AVDD (power) "Positive analog power supply", 41 SGND-3 (power) "DAC-3 signal ground. Connected to REFGND-B.", 43 SGND-2 (power) "DAC-2 signal ground. Connected to REFGND-B."
part C pins: 1 NC "Not connected", 12 NC "Not connected", 19 NC "Not connected", 24 NC "Not connected", 25 NC "Not connected", 36 NC "Not connected", 37 NC "Not connected", 42 NC "Not connected"